# Altium integrated library Weather_Project.IntLib: 51 symbols
Pins are listed as number, name and electrical type; pins without a type are passive.

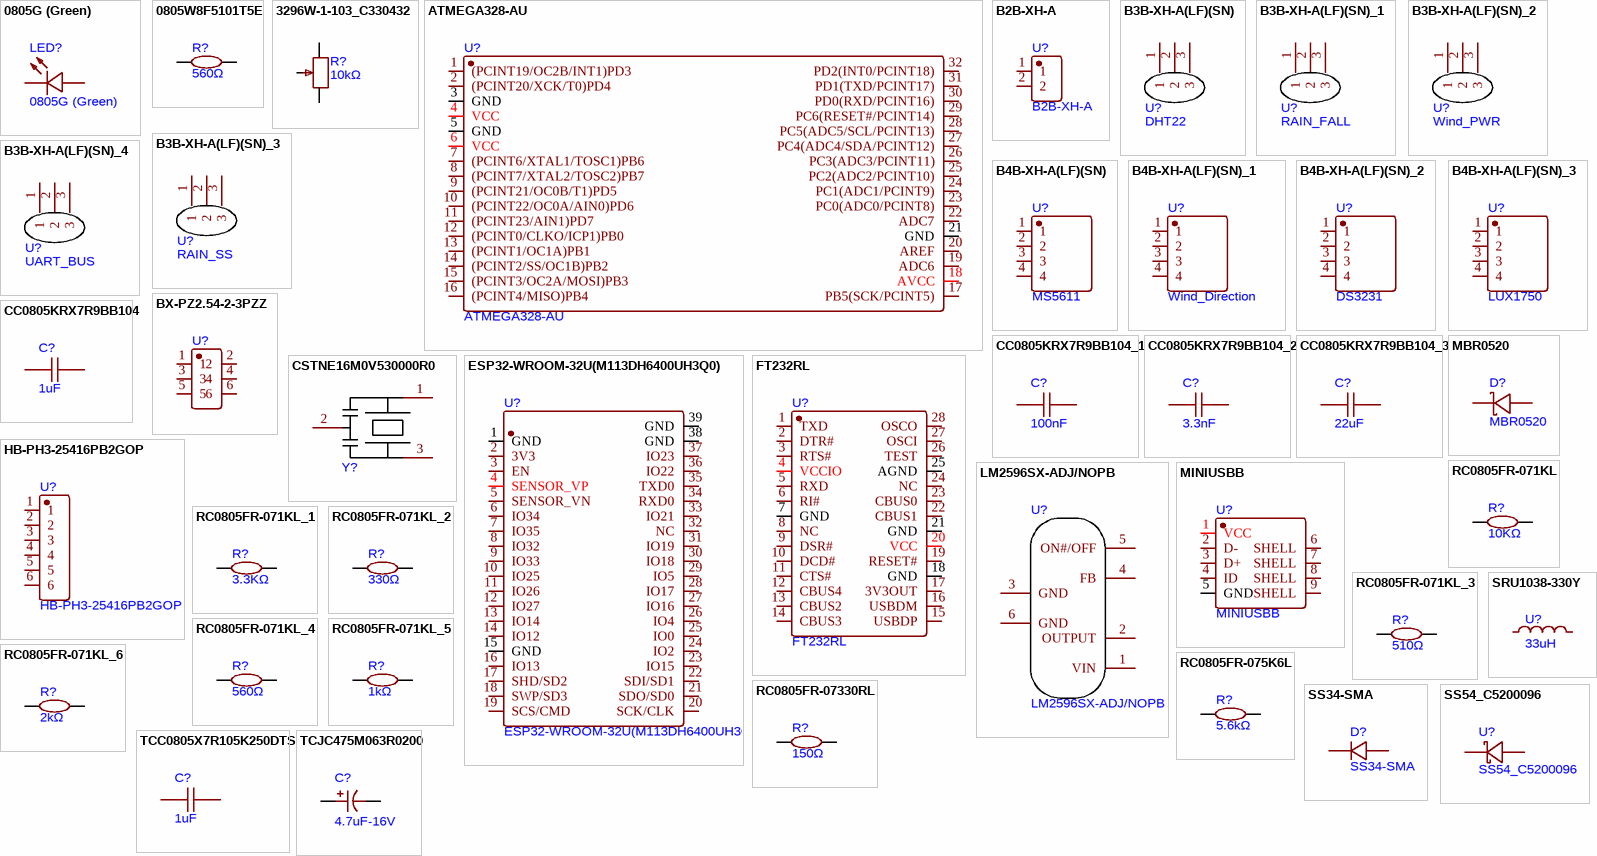
[diagram p0: symbols 0805G (Green) to TCJC475M063R0200]

## 0805G (Green)
designator LED?
footprint LED0805-R-RD
pins: 1 A, 2 K

## 0805W8F5101T5E
designator R?, comment 560Ω
footprint R0805
pins: 1, 2

## 3296W-1-103_C330432
designator R?, comment 10kΩ
footprint RES-ADJ-TH_3296W
pins: 1, 2, 3

## ATMEGA328-AU
designator U?
footprint TQFP-32_L7.0-W7.0-P0.80-LS9.0-BL
pins: 1 (PCINT19/OC2B/INT1)PD3, 2 (PCINT20/XCK/T0)PD4, 3 GND, 4 VCC, 5 GND, 6 VCC, 7 (PCINT6/XTAL1/TOSC1)PB6, 8 (PCINT7/XTAL2/TOSC2)PB7, 9 (PCINT21/OC0B/T1)PD5, 10 (PCINT22/OC0A/AIN0)PD6, 11 (PCINT23/AIN1)PD7, 12 (PCINT0/CLKO/ICP1)PB0, 13 (PCINT1/OC1A)PB1, 14 (PCINT2/SS/OC1B)PB2, 15 (PCINT3/OC2A/MOSI)PB3, 16 (PCINT4/MISO)PB4, 17 PB5(SCK/PCINT5), 18 AVCC, 19 ADC6, 20 AREF, 21 GND, 22 ADC7, 23 PC0(ADC0/PCINT8), 24 PC1(ADC1/PCINT9), 25 PC2(ADC2/PCINT10), 26 PC3(ADC3/PCINT11), 27 PC4(ADC4/SDA/PCINT12), 28 PC5(ADC5/SCL/PCINT13), 29 PC6(RESET#/PCINT14), 30 PD0(RXD/PCINT16), 31 PD1(TXD/PCINT17), 32 PD2(INT0/PCINT18)

## B2B-XH-A
designator U?
footprint CONN-TH_XH-2A
pins: 1, 2

## B3B-XH-A(LF)(SN)
designator U?, comment DHT22
footprint CONN-TH_3P-P2.50_A2501WV2-3P
pins: 1, 2, 3

## B3B-XH-A(LF)(SN)_1
designator U?, comment RAIN_FALL
footprint CONN-TH_3P-P2.50_A2501WV2-3P
pins: 1, 2, 3

## B3B-XH-A(LF)(SN)_2
designator U?, comment Wind_PWR
footprint CONN-TH_3P-P2.50_A2501WV2-3P
pins: 1, 2, 3

## B3B-XH-A(LF)(SN)_3
designator U?, comment RAIN_SS
footprint CONN-TH_3P-P2.50_A2501WV2-3P
pins: 1, 2, 3

## B3B-XH-A(LF)(SN)_4
designator U?, comment UART_BUS
footprint CONN-TH_3P-P2.50_A2501WV2-3P
pins: 1, 2, 3

## B4B-XH-A(LF)(SN)
designator U?, comment MS5611
footprint CONN-TH_B4B-XH-A-LF-SN
pins: 1, 2, 3, 4

## B4B-XH-A(LF)(SN)_1
designator U?, comment Wind_Direction
footprint CONN-TH_B4B-XH-A-LF-SN
pins: 1, 2, 3, 4

## B4B-XH-A(LF)(SN)_2
designator U?, comment DS3231
footprint CONN-TH_B4B-XH-A-LF-SN
pins: 1, 2, 3, 4

## B4B-XH-A(LF)(SN)_3
designator U?, comment LUX1750
footprint CONN-TH_B4B-XH-A-LF-SN
pins: 1, 2, 3, 4

## BX-PZ2.54-2-3PZZ
designator U?  (value not drawn)
footprint HDR-TH_6P-P2.54-V-M-R2-C3-S2.54
pins: 1, 2, 3, 4, 5, 6

## CC0805KRX7R9BB104
designator C?, comment 1uF
footprint C0805
pins: 1, 2

## CC0805KRX7R9BB104_1
designator C?, comment 100nF
footprint C0805
pins: 1, 2

## CC0805KRX7R9BB104_2
designator C?, comment 3.3nF
footprint C0805
pins: 1, 2

## CC0805KRX7R9BB104_3
designator C?, comment 22uF
footprint C0805
pins: 1, 2

## CSTNE16M0V530000R0
designator Y?  (value not drawn)
footprint CSTNE16M0V530000R0
pins: 1, 2, 3

## ESP32-WROOM-32U(M113DH6400UH3Q0)
designator U?
footprint WIFI-SMD_ESP32-WROOM-32UE-A
pins: 1 GND, 2 3V3, 3 EN, 4 SENSOR_VP, 5 SENSOR_VN, 6 IO34, 7 IO35, 8 IO32, 9 IO33, 10 IO25, 11 IO26, 12 IO27, 13 IO14, 14 IO12, 15 GND, 16 IO13, 17 SHD/SD2, 18 SWP/SD3, 19 SCS/CMD, 20 SCK/CLK, 21 SDO/SD0, 22 SDI/SD1, 23 IO15, 24 IO2, 25 IO0, 26 IO4, 27 IO16, 28 IO17, 29 IO5, 30 IO18, 31 IO19, 32 NC, 33 IO21, 34 RXD0, 35 TXD0, 36 IO22, 37 IO23, 38 GND, 39 GND

## FT232RL
designator U?
footprint SSOP-28_L10.2-W5.3-P0.65-LS7.8-BL
pins: 1 TXD, 2 DTR#, 3 RTS#, 4 VCCIO, 5 RXD, 6 RI#, 7 GND, 8 NC, 9 DSR#, 10 DCD#, 11 CTS#, 12 CBUS4, 13 CBUS2, 14 CBUS3, 15 USBDP, 16 USBDM, 17 3V3OUT, 18 GND, 19 RESET#, 20 VCC, 21 GND, 22 CBUS1, 23 CBUS0, 24 NC, 25 AGND, 26 TEST, 27 OSCI, 28 OSCO

## HB-PH3-25416PB2GOP
designator U?
footprint HDR-TH_6P-P2.54-V-M
pins: 1, 2, 3, 4, 5, 6

## LM2596SX-ADJ/NOPB
designator U?
footprint TO-263-5_L10.2-W8.9-P1.70-TL
pins: 1 VIN, 2 OUTPUT, 3 GND, 4 FB, 5 ON#/OFF, 6 GND

## MBR0520
designator D?
footprint SOD-123_L2.8-W1.8-LS3.7-RD
pins: 1 K, 2 A

## MINIUSBB
designator U?
footprint USB-SMD_MINIUSBB
pins: 1 VCC, 2 D-, 3 D+, 4 ID, 5 GND, 6 SHELL, 7 SHELL, 8 SHELL, 9 SHELL

## RC0805FR-071KL
designator R?, comment 10KΩ
footprint R0805
pins: 1, 2

## RC0805FR-071KL_1
designator R?, comment 3.3KΩ
footprint R0805
pins: 1, 2

## RC0805FR-071KL_2
designator R?, comment 330Ω
footprint R0805
pins: 1, 2

## RC0805FR-071KL_3
designator R?, comment 510Ω
footprint R0805
pins: 1, 2

## RC0805FR-071KL_4
designator R?, comment 560Ω
footprint R0805
pins: 1, 2

## RC0805FR-071KL_5
designator R?, comment 1kΩ
footprint R0805
pins: 1, 2

## RC0805FR-071KL_6
designator R?, comment 2kΩ
footprint R0805
pins: 1, 2

## RC0805FR-075K6L
designator R?, comment 5.6kΩ
footprint R0805
pins: 1, 2

## RC0805FR-07330RL
designator R?, comment 150Ω
footprint R0805
pins: 1, 2

## SRU1038-330Y
designator U?, comment 33uH
footprint IND-SMD_L10.0-W10.0_744066100
pins: 1, 2

## SS34-SMA
designator D?
footprint SMA_L4.3-W2.6-LS5.2-RD
pins: 1, 2

## SS54_C5200096
designator U?
footprint SMB_L4.3-W3.6-LS5.4-RD
pins: 1, 2

## TCC0805X7R105K250DTS
designator C?, comment 1uF
footprint C0805
pins: 1, 2

## TCJC475M063R0200
designator C?, comment 4.7uF-16V
footprint CAP-SMD_L6.0-W3.2-FD
pins: 1, 2

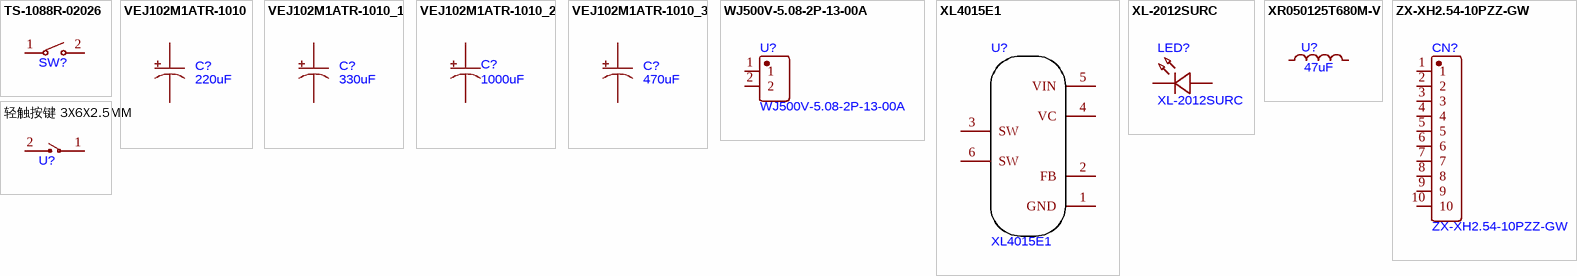
[diagram p1: symbols TS-1088R-02026 to 轻触按键 3X6X2.5MM]

## TS-1088R-02026
designator SW?  (value not drawn)
footprint SW-SMD_L3.9-W3.0-P4.45
pins: 1, 2

## VEJ102M1ATR-1010
designator C?, comment 220uF
footprint CAP-SMD_BD10.0-L10.3-W10.3-LS11.0-R-RD
pins: 1, 2

## VEJ102M1ATR-1010_1
designator C?, comment 330uF
footprint CAP-SMD_BD10.0-L10.3-W10.3-LS11.0-R-RD
pins: 1, 2

## VEJ102M1ATR-1010_2
designator C?, comment 1000uF
footprint CAP-SMD_BD10.0-L10.3-W10.3-LS11.0-R-RD
pins: 1, 2

## VEJ102M1ATR-1010_3
designator C?, comment 470uF
footprint CAP-SMD_BD10.0-L10.3-W10.3-LS11.0-R-RD
pins: 1, 2

## WJ500V-5.08-2P-13-00A
designator U?
footprint CONN-TH_2P-P5.08-WJ500V-5.08-2P
pins: 1, 2

## XL4015E1
designator U?
footprint TO-263-5_L10.2-W8.9-P1.70-TL
pins: 1 GND, 2 FB, 3 SW, 4 VC, 5 VIN, 6 SW

## XL-2012SURC
designator LED?
footprint LED0805-RD_RED
pins: 1 K, 2 A

## XR050125T680M-V
designator U?, comment 47uF
footprint IND-TH_L14.0-W6.5-P8.00-D0.6
pins: 1, 2

## ZX-XH2.54-10PZZ-GW
designator CN?
footprint CONN-TH_10P-P2.50_ZX-XH2.54-10PZZ-GW
pins: 1, 2, 3, 4, 5, 6, 7, 8, 9, 10

## 轻触按键 3X6X2.5MM
designator U?  (value not drawn)
footprint SW-SMD_L6.1-W3.7-LS8.0
pins: 1, 2